# Altium integrated library Pandora_STM32L4_Board_V2.4.IntLib: 44 symbols
Pins are listed as number, name and electrical type; pins without a type are passive.

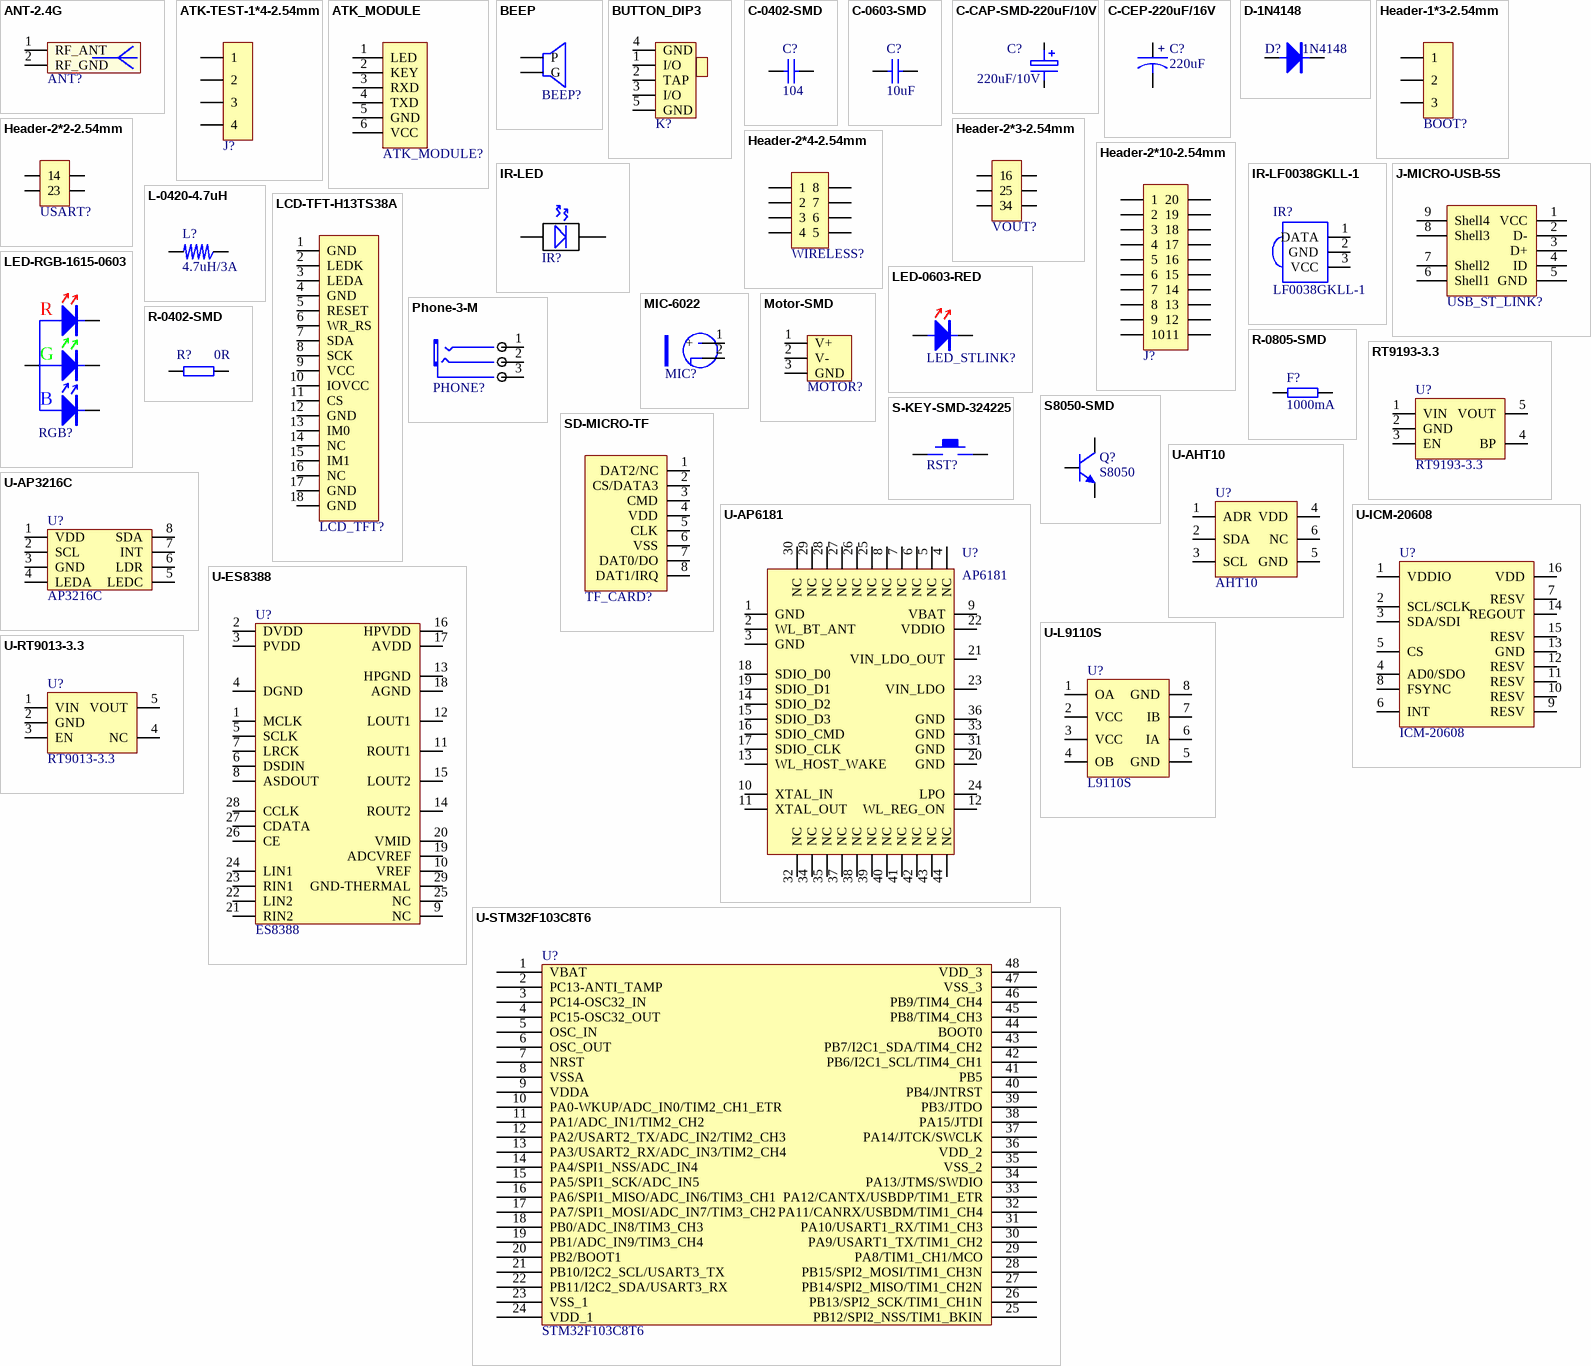
[diagram p0: symbols ANT-2.4G to U-STM32F103C8T6]

## ANT-2.4G
designator ANT?  (value not drawn)
ANT,2.4G,PCB天线
footprint ANT-2.4G
pins: 1 RF_ANT, 2 RF_GND

## ATK-TEST-1*4-2.54mm
designator J?  (value not drawn)
测试点
footprint ATK-TEST-1*4-2.54mm
pins: 1, 2, 3, 4

## ATK_MODULE
designator ATK_MODULE?  (value not drawn)
单排母,1*6,2.54mm
footprint Header-1*6-2.54mm
pins: 1 LED, 2 KEY, 3 RXD, 4 TXD, 5 GND, 6 VCC

## BEEP
designator BEEP?  (value not drawn)
3.3V有源蜂鸣器
footprint BEEP
pins: 1 P, 2 G

## BUTTON_DIP3
designator K?  (value not drawn)
拨动开关SS-12F44
footprint BTN8.8*4.6
pins: 1 I/O, 2 TAP, 3 I/O, 4 GND, 5 GND

## C-0402-SMD
designator C?, comment 104
footprint CAP-SMD-0402 (贴片电容)
pins: 1, 2

## C-0603-SMD
designator C?, comment 10uF
footprint CAP-SMD-0603
pins: 1, 2

## C-CAP-SMD-220uF/10V
designator C?, comment 220uF/10V
footprint CS 6.3mm*5.4mm
pins: 1, 2

## C-CEP-220uF/16V
designator C?, comment 220uF
footprint C-D-6*7
footprint C-D*4*7
footprint C-D-5*5
pins: 1, 2
text: +

## D-1N4148
designator D?, comment 1N4148
footprint SOD-80
footprint SOD-323(0805)
footprint SOD-523F(0603)
pins: 1, 2

## Header-1*3-2.54mm
designator BOOT?  (value not drawn)
单排针-2.54mm
footprint Header-1*3-2.54mm
pins: 1, 2, 3

## Header-2*2-2.54mm
designator USART?  (value not drawn)
双排针-2.54mm
footprint Header-2*2-2.54mm
pins: 1, 2, 3, 4

## Header-2*3-2.54mm
designator VOUT?  (value not drawn)
双排针-2.54mm
footprint Header-2*3-2.54mm
pins: 1, 2, 3, 4, 5, 6

## Header-2*4-2.54mm
designator WIRELESS?  (value not drawn)
双排座-2.54mm
footprint HEADER-2*4-2.54MM
pins: 1, 2, 3, 4, 5, 6, 7, 8

## Header-2*10-2.54mm
designator J?  (value not drawn)
双排针-2.54mm
footprint Header-2*10-2.54mm
pins: 1, 2, 3, 4, 5, 6, 7, 8, 9, 10, 11, 12, 13, 14, 15, 16, 17, 18, 19, 20

## IR-LED
designator IR?  (value not drawn)
1206红外发射管（侧）
footprint IR-LED
pins: 1, 2

## IR-LF0038GKLL-1
designator IR?, comment LF0038GKLL-1
红外接收管SMD
footprint IR-LF0038GKLL-1 (红外接收管)
pins: 1 DATA, 2 GND, 3 VCC

## J-MICRO-USB-5S
designator USB_ST_LINK?  (value not drawn)
Micro USB 5.9有柱脚长1.25加长针
footprint USB-AB-5S
pins: 1 VCC, 2 D-, 3 D+, 4 ID, 5 GND, 6 Shell1, 7 Shell2, 8 Shell3, 9 Shell4

## L-0420-4.7uH
designator L?, comment 4.7uH/3A
电感,4.7uH,3A
footprint L-0402-4*4*-2
pins: 1, 2

## LCD-TFT-H13TS38A
designator LCD_TFT?  (value not drawn)
LCD,TFT,1.3'240*240,禹龙
footprint TFT-H13TS43B (TFT,1.3',240*240)
pins: 1 GND, 2 LEDK, 3 LEDA, 4 GND, 5 RESET, 6 WR_RS, 7 SDA, 8 SCK, 9 VCC, 10 IOVCC, 11 CS, 12 GND, 13 IM0, 14 NC, 15 IM1, 16 NC, 17 GND, 18 GND

## LED-0603-RED
designator LED_STLINK?  (value not drawn)
发光二极管-红色
footprint LED-SMD-0603-RED
pins: 1, 2

## LED-RGB-1615-0603
designator RGB?  (value not drawn)
RGB,共阳,1615,0603
footprint LED-RGB-1615-0603
pins: 1, 2, 3, 4
text: R; G; B

## MIC-6022
designator MIC?  (value not drawn)
MIC
footprint MIC-6022
pins: 1 +, 2 GND

## Motor-SMD
designator MOTOR?  (value not drawn)
电机,SMD
footprint MOTOR-SMD
pins: 1 V+, 2 V-, 3 GND

## Phone-3-M
designator PHONE?  (value not drawn)
耳机座,三节
footprint PHONE-3
pins: 1 CHL, 2 CHR, 3 COM

## R-0402-SMD
designator R?, comment 0R
贴片电阻
footprint RES-SMD-0402 (贴片电阻)
pins: 1, 2

## R-0805-SMD
designator F?, comment 1000mA
贴片电阻
footprint RES-SMD-0805 (贴片电阻)
pins: 1, 2

## RT9193-3.3
designator U?
footprint SOT-23-5
pins: 1 VIN, 2 GND, 3 EN, 4 BP, 5 VOUT

## S8050-SMD
designator Q?, comment S8050
footprint SOT-23-3
pins: 1, 2, 3

## S-KEY-SMD-324225
designator RST?  (value not drawn)
KEY,SMD,324225
footprint KEY-SOP324225
pins: 1, 2

## SD-MICRO-TF
designator TF_CARD?  (value not drawn)
SD,MICRO,TF
footprint SD-MICRO-TF (TF卡座)
pins: 1 DAT2/NC, 2 CS/DATA3, 3 CMD, 4 VDD, 5 CLK, 6 VSS, 7 DAT0/DO, 8 DAT1/IRQ

## U-AHT10
designator U?, comment AHT10
Sensor,温湿度传感器
footprint AHT10 (温湿度传感器)
pins: 1 ADR, 2 SDA, 3 SCL, 4 VDD, 5 GND, 6 NC

## U-AP3216C
designator U?, comment AP3216C
Sensor.光照/距离
footprint QFN-8-2.4*4.1
pins: 1 VDD, 2 SCL, 3 GND, 4 LEDA, 5 LEDC, 6 LDR, 7 INT, 8 SDA

## U-AP6181
designator U?, comment AP6181
WIFI Module,SDIO
footprint QFN-44
pins: 1 GND, 2 WL_BT_ANT, 3 GND, 4 NC, 5 NC, 6 NC, 7 NC, 8 NC, 9 VBAT, 10 XTAL_IN, 11 XTAL_OUT, 12 WL_REG_ON, 13 WL_HOST_WAKE, 14 SDIO_D2, 15 SDIO_D3, 16 SDIO_CMD, 17 SDIO_CLK, 18 SDIO_D0, 19 SDIO_D1, 20 GND, 21 VIN_LDO_OUT, 22 VDDIO, 23 VIN_LDO, 24 LPO, 25 NC, 26 NC, 27 NC, 28 NC, 29 NC, 30 NC, 31 GND, 32 NC, 33 GND, 34 NC, 35 NC, 36 GND, 37 NC, 38 NC, 39 NC, 40 NC, 41 NC, 42 NC, 43 NC, 44 NC

## U-ES8388
designator U?, comment ES8388
AUDIO,2-ch DAC,2-ch ADC
footprint QFN-28-4*4
pins: 1 MCLK, 2 DVDD, 3 PVDD, 4 DGND, 5 SCLK, 6 DSDIN, 7 LRCK, 8 ASDOUT, 9 NC, 10 VREF, 11 ROUT1, 12 LOUT1, 13 HPGND, 14 ROUT2, 15 LOUT2, 16 HPVDD, 17 AVDD, 18 AGND, 19 ADCVREF, 20 VMID, 21 RIN2, 22 LIN2, 23 RIN1, 24 LIN1, 25 NC, 26 CE, 27 CDATA, 28 CCLK, 29 GND-THERMAL

## U-ICM-20608
designator U?, comment ICM-20608
三轴陀螺仪/三轴加速度计,
footprint LGA-16-3*3*0.75
pins: 1 VDDIO, 2 SCL/SCLK, 3 SDA/SDI, 4 AD0/SDO, 5 CS, 6 INT, 7 RESV, 8 FSYNC, 9 RESV, 10 RESV, 11 RESV, 12 RESV, 13 GND, 14 REGOUT, 15 RESV, 16 VDD

## U-L9110S
designator U?, comment L9110S
电机驱动,800mA
footprint SOP-8
pins: 1 OA, 2 VCC, 3 VCC, 4 OB, 5 GND, 6 IA, 7 IB, 8 GND

## U-RT9013-3.3
designator U?, comment RT9013-3.3
LDO,500mA
footprint SOT-23-5
pins: 1 VIN, 2 GND, 3 EN, 4 NC, 5 VOUT

## U-STM32F103C8T6
designator U?, comment STM32F103C8T6
footprint LQFP-48PIN
pins: 1 VBAT, 2 PC13-ANTI_TAMP, 3 PC14-OSC32_IN, 4 PC15-OSC32_OUT, 5 OSC_IN, 6 OSC_OUT, 7 NRST, 8 VSSA, 9 VDDA, 10 PA0-WKUP/ADC_IN0/TIM2_CH1_ETR, 11 PA1/ADC_IN1/TIM2_CH2, 12 PA2/USART2_TX/ADC_IN2/TIM2_CH3, 13 PA3/USART2_RX/ADC_IN3/TIM2_CH4, 14 PA4/SPI1_NSS/ADC_IN4, 15 PA5/SPI1_SCK/ADC_IN5, 16 PA6/SPI1_MISO/ADC_IN6/TIM3_CH1, 17 PA7/SPI1_MOSI/ADC_IN7/TIM3_CH2, 18 PB0/ADC_IN8/TIM3_CH3, 19 PB1/ADC_IN9/TIM3_CH4, 20 PB2/BOOT1, 21 PB10/I2C2_SCL/USART3_TX, 22 PB11/I2C2_SDA/USART3_RX, 23 VSS_1, 24 VDD_1, 25 PB12/SPI2_NSS/TIM1_BKIN, 26 PB13/SPI2_SCK/TIM1_CH1N, 27 PB14/SPI2_MISO/TIM1_CH2N, 28 PB15/SPI2_MOSI/TIM1_CH3N, 29 PA8/TIM1_CH1/MCO, 30 PA9/USART1_TX/TIM1_CH2, 31 PA10/USART1_RX/TIM1_CH3, 32 PA11/CANRX/USBDM/TIM1_CH4, 33 PA12/CANTX/USBDP/TIM1_ETR, 34 PA13/JTMS/SWDIO, 35 VSS_2, 36 VDD_2, 37 PA14/JTCK/SWCLK, 38 PA15/JTDI, 39 PB3/JTDO, 40 PB4/JNTRST, 41 PB5, 42 PB6/I2C1_SCL/TIM4_CH1, 43 PB7/I2C1_SDA/TIM4_CH2, 44 BOOT0, 45 PB8/TIM4_CH3, 46 PB9/TIM4_CH4, 47 VSS_3, 48 VDD_3

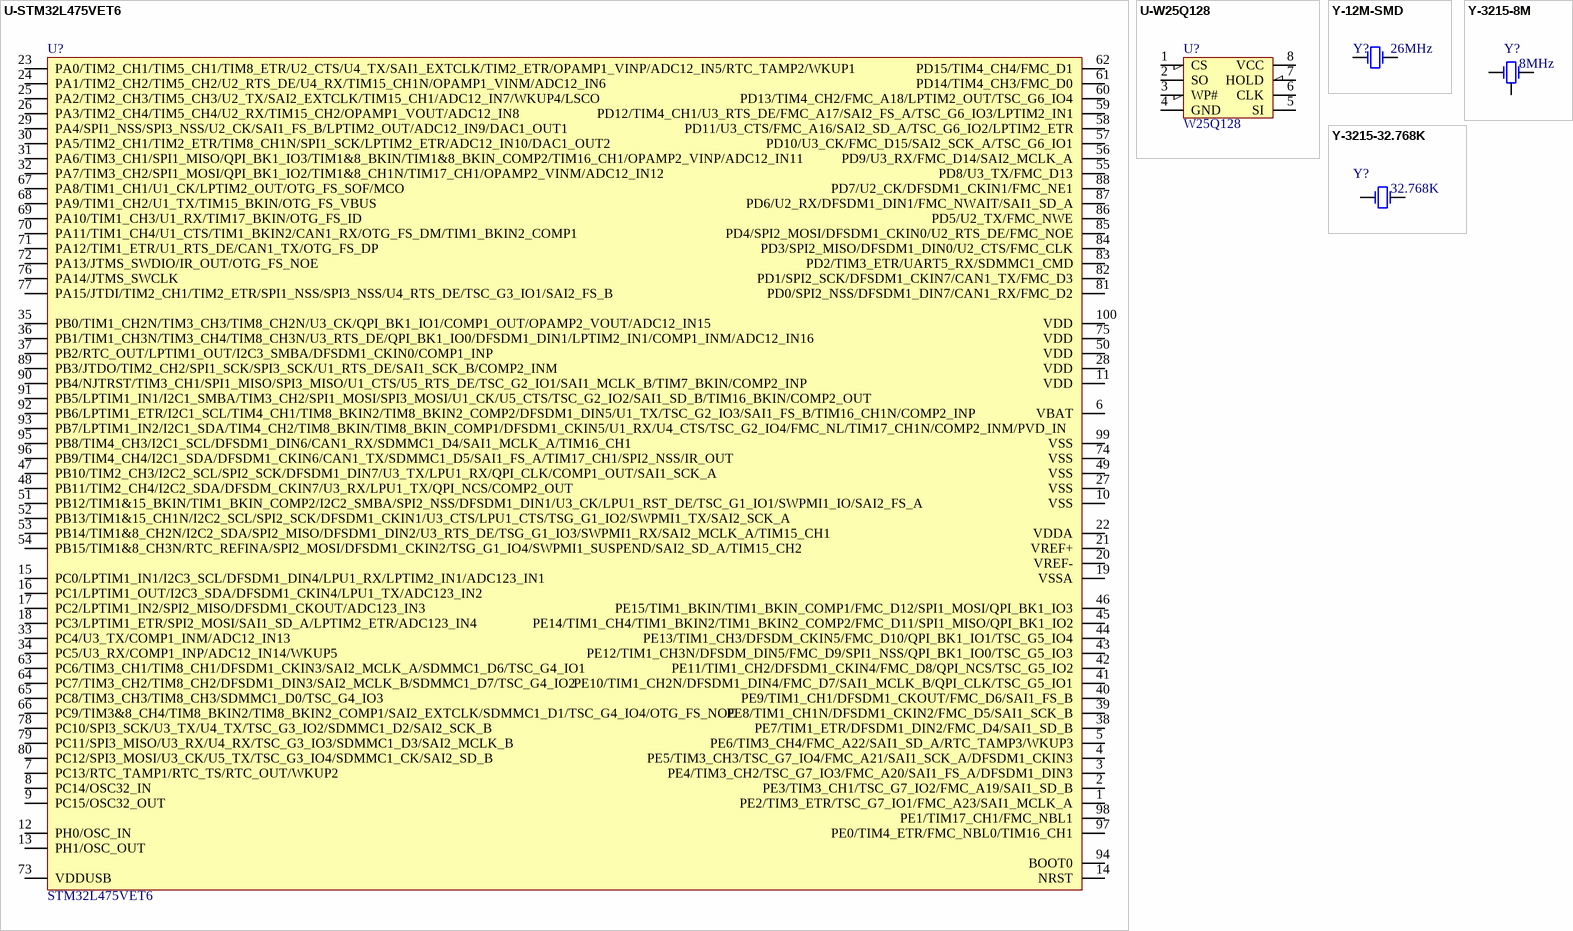
[diagram p1: symbols U-STM32L475VET6 to Y-3215-32.768K]

## U-STM32L475VET6
designator U?, comment STM32L475VET6
MCU,LQFP100,512K FLASH,128K RAM
footprint LQFP-100PIN
pins: 1 PE2/TIM3_ETR/TSC_G7_IO1/FMC_A23/SAI1_MCLK_A, 2 PE3/TIM3_CH1/TSC_G7_IO2/FMC_A19/SAI1_SD_B, 3 PE4/TIM3_CH2/TSC_G7_IO3/FMC_A20/SAI1_FS_A/DFSDM1_DIN3, 4 PE5/TIM3_CH3/TSC_G7_IO4/FMC_A21/SAI1_SCK_A/DFSDM1_CKIN3, 5 PE6/TIM3_CH4/FMC_A22/SAI1_SD_A/RTC_TAMP3/WKUP3, 6 VBAT, 7 PC13/RTC_TAMP1/RTC_TS/RTC_OUT/WKUP2, 8 PC14/OSC32_IN, 9 PC15/OSC32_OUT, 10 VSS, 11 VDD, 12 PH0/OSC_IN, 13 PH1/OSC_OUT, 14 NRST, 15 PC0/LPTIM1_IN1/I2C3_SCL/DFSDM1_DIN4/LPU1_RX/LPTIM2_IN1/ADC123_IN1, 16 PC1/LPTIM1_OUT/I2C3_SDA/DFSDM1_CKIN4/LPU1_TX/ADC123_IN2, 17 PC2/LPTIM1_IN2/SPI2_MISO/DFSDM1_CKOUT/ADC123_IN3, 18 PC3/LPTIM1_ETR/SPI2_MOSI/SAI1_SD_A/LPTIM2_ETR/ADC123_IN4, 19 VSSA, 20 VREF-, 21 VREF+, 22 VDDA, 23 PA0/TIM2_CH1/TIM5_CH1/TIM8_ETR/U2_CTS/U4_TX/SAI1_EXTCLK/TIM2_ETR/OPAMP1_VINP/ADC12_IN5/RTC_TAMP2/WKUP1, 24 PA1/TIM2_CH2/TIM5_CH2/U2_RTS_DE/U4_RX/TIM15_CH1N/OPAMP1_VINM/ADC12_IN6, 25 PA2/TIM2_CH3/TIM5_CH3/U2_TX/SAI2_EXTCLK/TIM15_CH1/ADC12_IN7/WKUP4/LSCO, 26 PA3/TIM2_CH4/TIM5_CH4/U2_RX/TIM15_CH2/OPAMP1_VOUT/ADC12_IN8, 27 VSS, 28 VDD, 29 PA4/SPI1_NSS/SPI3_NSS/U2_CK/SAI1_FS_B/LPTIM2_OUT/ADC12_IN9/DAC1_OUT1, 30 PA5/TIM2_CH1/TIM2_ETR/TIM8_CH1N/SPI1_SCK/LPTIM2_ETR/ADC12_IN10/DAC1_OUT2, 31 PA6/TIM3_CH1/SPI1_MISO/QPI_BK1_IO3/TIM1&8_BKIN/TIM1&8_BKIN_COMP2/TIM16_CH1/OPAMP2_VINP/ADC12_IN11, 32 PA7/TIM3_CH2/SPI1_MOSI/QPI_BK1_IO2/TIM1&8_CH1N/TIM17_CH1/OPAMP2_VINM/ADC12_IN12, 33 PC4/U3_TX/COMP1_INM/ADC12_IN13, 34 PC5/U3_RX/COMP1_INP/ADC12_IN14/WKUP5, 35 PB0/TIM1_CH2N/TIM3_CH3/TIM8_CH2N/U3_CK/QPI_BK1_IO1/COMP1_OUT/OPAMP2_VOUT/ADC12_IN15, 36 PB1/TIM1_CH3N/TIM3_CH4/TIM8_CH3N/U3_RTS_DE/QPI_BK1_IO0/DFSDM1_DIN1/LPTIM2_IN1/COMP1_INM/ADC12_IN16, 37 PB2/RTC_OUT/LPTIM1_OUT/I2C3_SMBA/DFSDM1_CKIN0/COMP1_INP, 38 PE7/TIM1_ETR/DFSDM1_DIN2/FMC_D4/SAI1_SD_B, 39 PE8/TIM1_CH1N/DFSDM1_CKIN2/FMC_D5/SAI1_SCK_B, 40 PE9/TIM1_CH1/DFSDM1_CKOUT/FMC_D6/SAI1_FS_B, 41 PE10/TIM1_CH2N/DFSDM1_DIN4/FMC_D7/SAI1_MCLK_B/QPI_CLK/TSC_G5_IO1, 42 PE11/TIM1_CH2/DFSDM1_CKIN4/FMC_D8/QPI_NCS/TSC_G5_IO2, 43 PE12/TIM1_CH3N/DFSDM_DIN5/FMC_D9/SPI1_NSS/QPI_BK1_IO0/TSC_G5_IO3, 44 PE13/TIM1_CH3/DFSDM_CKIN5/FMC_D10/QPI_BK1_IO1/TSC_G5_IO4, 45 PE14/TIM1_CH4/TIM1_BKIN2/TIM1_BKIN2_COMP2/FMC_D11/SPI1_MISO/QPI_BK1_IO2, 46 PE15/TIM1_BKIN/TIM1_BKIN_COMP1/FMC_D12/SPI1_MOSI/QPI_BK1_IO3, 47 PB10/TIM2_CH3/I2C2_SCL/SPI2_SCK/DFSDM1_DIN7/U3_TX/LPU1_RX/QPI_CLK/COMP1_OUT/SAI1_SCK_A, 48 PB11/TIM2_CH4/I2C2_SDA/DFSDM_CKIN7/U3_RX/LPU1_TX/QPI_NCS/COMP2_OUT, 49 VSS, 50 VDD, 51 PB12/TIM1&15_BKIN/TIM1_BKIN_COMP2/I2C2_SMBA/SPI2_NSS/DFSDM1_DIN1/U3_CK/LPU1_RST_DE/TSC_G1_IO1/SWPMI1_IO/SAI2_FS_A, 52 PB13/TIM1&15_CH1N/I2C2_SCL/SPI2_SCK/DFSDM1_CKIN1/U3_CTS/LPU1_CTS/TSG_G1_IO2/SWPMI1_TX/SAI2_SCK_A, 53 PB14/TIM1&8_CH2N/I2C2_SDA/SPI2_MISO/DFSDM1_DIN2/U3_RTS_DE/TSG_G1_IO3/SWPMI1_RX/SAI2_MCLK_A/TIM15_CH1, 54 PB15/TIM1&8_CH3N/RTC_REFINA/SPI2_MOSI/DFSDM1_CKIN2/TSG_G1_IO4/SWPMI1_SUSPEND/SAI2_SD_A/TIM15_CH2, 55 PD8/U3_TX/FMC_D13, 56 PD9/U3_RX/FMC_D14/SAI2_MCLK_A, 57 PD10/U3_CK/FMC_D15/SAI2_SCK_A/TSC_G6_IO1, 58 PD11/U3_CTS/FMC_A16/SAI2_SD_A/TSC_G6_IO2/LPTIM2_ETR, 59 PD12/TIM4_CH1/U3_RTS_DE/FMC_A17/SAI2_FS_A/TSC_G6_IO3/LPTIM2_IN1, 60 PD13/TIM4_CH2/FMC_A18/LPTIM2_OUT/TSC_G6_IO4, 61 PD14/TIM4_CH3/FMC_D0, 62 PD15/TIM4_CH4/FMC_D1, 63 PC6/TIM3_CH1/TIM8_CH1/DFSDM1_CKIN3/SAI2_MCLK_A/SDMMC1_D6/TSC_G4_IO1, 64 PC7/TIM3_CH2/TIM8_CH2/DFSDM1_DIN3/SAI2_MCLK_B/SDMMC1_D7/TSC_G4_IO2, 65 PC8/TIM3_CH3/TIM8_CH3/SDMMC1_D0/TSC_G4_IO3, 66 PC9/TIM3&8_CH4/TIM8_BKIN2/TIM8_BKIN2_COMP1/SAI2_EXTCLK/SDMMC1_D1/TSC_G4_IO4/OTG_FS_NOE, 67 PA8/TIM1_CH1/U1_CK/LPTIM2_OUT/OTG_FS_SOF/MCO, 68 PA9/TIM1_CH2/U1_TX/TIM15_BKIN/OTG_FS_VBUS, 69 PA10/TIM1_CH3/U1_RX/TIM17_BKIN/OTG_FS_ID, 70 PA11/TIM1_CH4/U1_CTS/TIM1_BKIN2/CAN1_RX/OTG_FS_DM/TIM1_BKIN2_COMP1, 71 PA12/TIM1_ETR/U1_RTS_DE/CAN1_TX/OTG_FS_DP, 72 PA13/JTMS_SWDIO/IR_OUT/OTG_FS_NOE, 73 VDDUSB, 74 VSS, 75 VDD, 76 PA14/JTMS_SWCLK, 77 PA15/JTDI/TIM2_CH1/TIM2_ETR/SPI1_NSS/SPI3_NSS/U4_RTS_DE/TSC_G3_IO1/SAI2_FS_B, 78 PC10/SPI3_SCK/U3_TX/U4_TX/TSC_G3_IO2/SDMMC1_D2/SAI2_SCK_B, 79 PC11/SPI3_MISO/U3_RX/U4_RX/TSC_G3_IO3/SDMMC1_D3/SAI2_MCLK_B, 80 PC12/SPI3_MOSI/U3_CK/U5_TX/TSC_G3_IO4/SDMMC1_CK/SAI2_SD_B, 81 PD0/SPI2_NSS/DFSDM1_DIN7/CAN1_RX/FMC_D2, 82 PD1/SPI2_SCK/DFSDM1_CKIN7/CAN1_TX/FMC_D3, 83 PD2/TIM3_ETR/UART5_RX/SDMMC1_CMD, 84 PD3/SPI2_MISO/DFSDM1_DIN0/U2_CTS/FMC_CLK, 85 PD4/SPI2_MOSI/DFSDM1_CKIN0/U2_RTS_DE/FMC_NOE, 86 PD5/U2_TX/FMC_NWE, 87 PD6/U2_RX/DFSDM1_DIN1/FMC_NWAIT/SAI1_SD_A, 88 PD7/U2_CK/DFSDM1_CKIN1/FMC_NE1, 89 PB3/JTDO/TIM2_CH2/SPI1_SCK/SPI3_SCK/U1_RTS_DE/SAI1_SCK_B/COMP2_INM, 90 PB4/NJTRST/TIM3_CH1/SPI1_MISO/SPI3_MISO/U1_CTS/U5_RTS_DE/TSC_G2_IO1/SAI1_MCLK_B/TIM7_BKIN/COMP2_INP, 91 PB5/LPTIM1_IN1/I2C1_SMBA/TIM3_CH2/SPI1_MOSI/SPI3_MOSI/U1_CK/U5_CTS/TSC_G2_IO2/SAI1_SD_B/TIM16_BKIN/COMP2_OUT, 92 PB6/LPTIM1_ETR/I2C1_SCL/TIM4_CH1/TIM8_BKIN2/TIM8_BKIN2_COMP2/DFSDM1_DIN5/U1_TX/TSC_G2_IO3/SAI1_FS_B/TIM16_CH1N/COMP2_INP, 93 PB7/LPTIM1_IN2/I2C1_SDA/TIM4_CH2/TIM8_BKIN/TIM8_BKIN_COMP1/DFSDM1_CKIN5/U1_RX/U4_CTS/TSC_G2_IO4/FMC_NL/TIM17_CH1N/COMP2_INM/PVD_IN, 94 BOOT0, 95 PB8/TIM4_CH3/I2C1_SCL/DFSDM1_DIN6/CAN1_RX/SDMMC1_D4/SAI1_MCLK_A/TIM16_CH1, 96 PB9/TIM4_CH4/I2C1_SDA/DFSDM1_CKIN6/CAN1_TX/SDMMC1_D5/SAI1_FS_A/TIM17_CH1/SPI2_NSS/IR_OUT, 97 PE0/TIM4_ETR/FMC_NBL0/TIM16_CH1, 98 PE1/TIM17_CH1/FMC_NBL1, 99 VSS, 100 VDD

## U-W25Q128
designator U?, comment W25Q128
SPI FLASH,16M
footprint SOP-8-V
pins: 1 CS, 2 SO, 3 WP#, 4 GND, 5 SI, 6 CLK, 7 HOLD, 8 VCC

## Y-12M-SMD
designator Y?, comment 26MHz
晶振 - 12M贴片
footprint Y-3225
pins: 1, 3

## Y-3215-8M
designator Y?, comment 8MHz
XTAL,3215,8MHz
footprint Y-XTAL-3215-3P
pins: 1 OSC1, 2 GND, 3 OSC2

## Y-3215-32.768K
designator Y?, comment 32.768K
XTAL,3215,32.768K
footprint Y-XTAL-3215-2P
pins: 1 OSC1, 2 OSC2